# EAGLE library part 750370024 (library Wurth Electronics Midcom Inc - EAGLE Lib V2-1)
Package Style: EE13/7/4 Mounting: THT Pins: 9 pins Bobbin: 070-5281 Best pinouts for production vary per application. Please contact Wurth Electronics Midcom, Inc. for assistance with your custom design. Website: Wurth Electronics Midcom <http://www.we-online.com/midcom> Contact us Wurth Electronics Midcom, Inc. 121 Airport Dr. Watertown, SD 57201 Phone: (605) 886-4385 Fax: (605) 886-4486 E-Mail: midcom@we-online.com
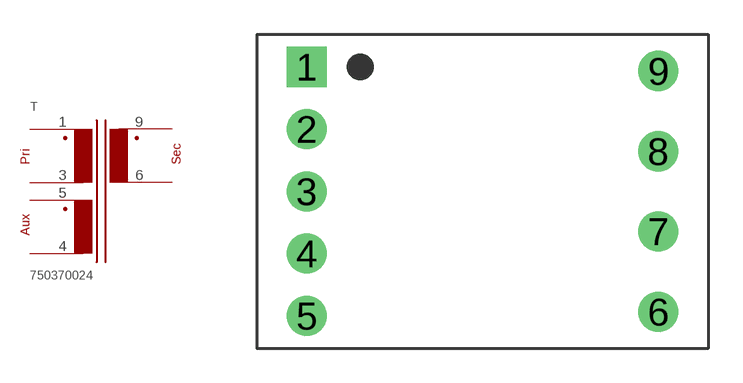
[diagram p353: symbol with the pads of EE13/7/4_THT_H_9PIN_(5281); footprint EE13/7/4_THT_H_9PIN_(5281)]

Designator prefix T

## 750370024  [EE13/7/4_THT_H_9PIN_(5281)]
1  1  pas
3  3  pas
4  4  pas
5  5  pas
6  6  pas
9  9  pas

## Footprint EE13/7/4_THT_H_9PIN_(5281) (pad centres in mm)
Package Style: EE13/7/4 Mounting: THT Pins: 9 Bobbin: 070-5281
drill 1.168 square: 1 -7.671,5.436
drill 1.168: 2 -7.671,2.718; 3 -7.671,0; 4 -7.671,-2.718; 5 -7.671,-5.436; 6 7.671,-5.258; 7 7.671,-1.753; 8 7.671,1.753; 9 7.671,5.258